# Altium footprint library PcbLib1.PcbLib: 1 footprints
Each footprint in its own frame and in the unit in brackets; x right, y up, seen from the top. Pads: shape width x height; smd on the part's side, far side on the other; paste and mask are expansions set on the pad; w line width, h text height; cw(c..) or ccw(c..) is an arc to the next point about the centre after c.
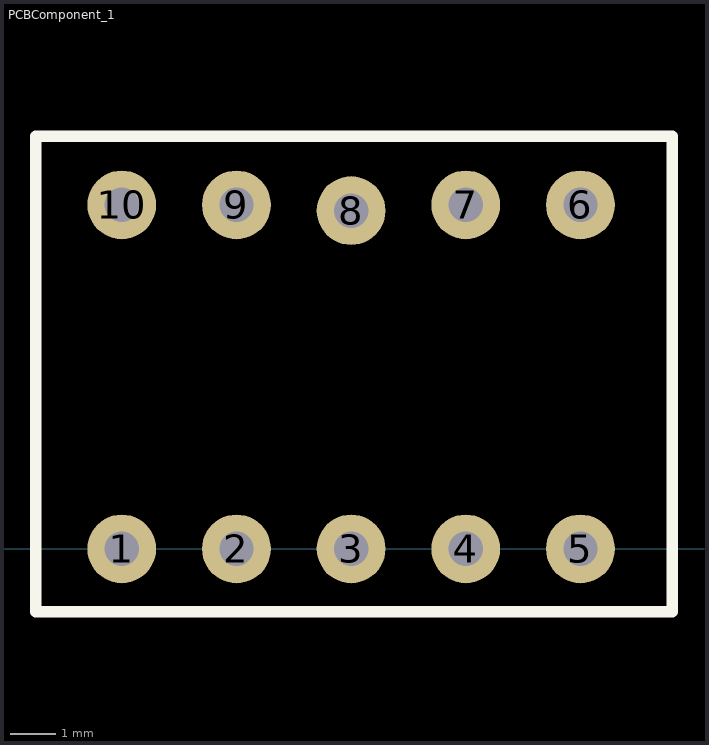
[diagram p0: the footprint, top view; thin cyan lines are the x and y axes]

## PCBComponent_1 [mil]
pads (10):
  round 60 hole 30: 1(225,0) 2(325,0) 3(425,0) 4(525,0) 5(625,0) 6(625,300) 7(525,300) 8(425,295) 9(325,300) 10(225,300)
Top Overlay:
  lines w10: 150,-55 150,360 705,360 705,-55 150,-55